# Altium footprint library TSM-106-01-F-SH.PcbLib: 1 footprints
Each footprint in its own frame and in the unit in brackets; x right, y up, seen from the top. Pads: shape width x height; smd on the part's side, far side on the other; paste and mask are expansions set on the pad; w line width, h text height; cw(c..) or ccw(c..) is an arc to the next point about the centre after c.
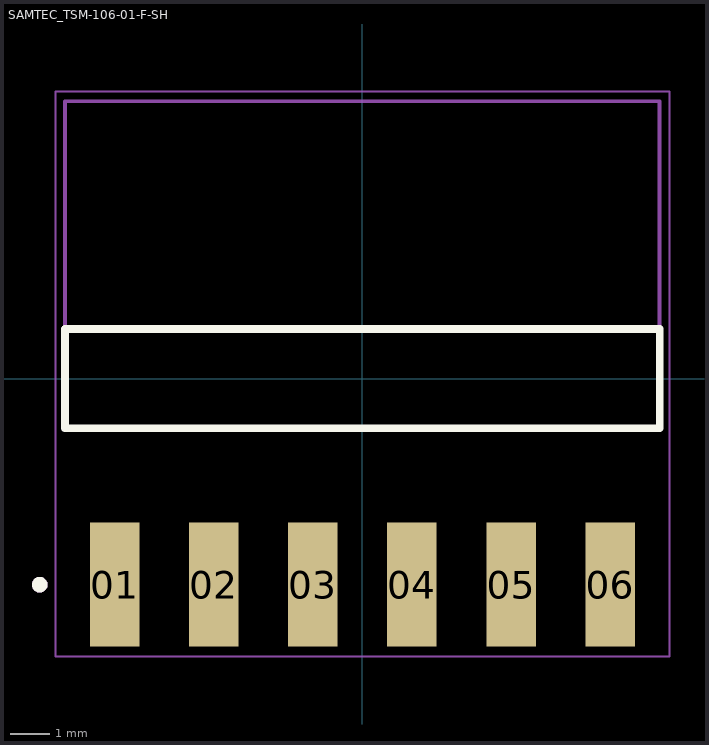
[diagram p0: the footprint, top view; thin cyan lines are the x and y axes]

## SAMTEC_TSM-106-01-F-SH [mm]
pads (6):
  rect 1.27x3.18 smd: 01(-6.35,-5.28) 02(-3.81,-5.28) 03(-1.27,-5.28) 04(1.27,-5.28) 05(3.81,-5.28) 06(6.35,-5.28)
Top Overlay:
  circle w0.2: c-8.27,-5.28 r0.1
  lines w0.2: -7.62,-1.27 7.62,-1.27 7.62,1.27 -7.62,1.27 -7.62,-1.27
Mechanical 13:
  circle w0.2: c-8.27,-5.28 r0.1
  lines w0.1: -7.62,-1.27 -7.62,7.11 7.62,7.11 7.62,-1.27 ; -7.62,-1.27 7.62,-1.27 ; -7.62,-1.27 -7.62,1.27 7.62,1.27 7.62,-1.27
Mechanical 15:
  lines w0.05: -7.87,-7.12 7.87,-7.12 7.87,7.36 -7.87,7.36 -7.87,-7.12